# Altium schematic symbol library CRCW040223R7FKED.SchLib: 1 symbol
Pins are listed as number, name and electrical type; pins without a type are passive.

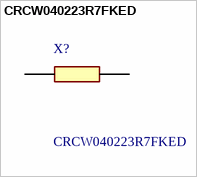
[diagram p0: symbol CRCW040223R7FKED]

## CRCW040223R7FKED
designator X?
RESISTOR, 0402 23.7 Ohms +/-1% 0.063 W; Manufacturer_Name: Vishay; Geometry.Height: 0.4mm; Manufacturer_Part_Number: CRCW040223R7FKED; Mouser Part Number: *; Mouser Price/Stock: *; Arrow Part Number: *; Arrow Price/Stock: *; Datasheet Link: http://www.vishay.com/docs/20035/dcrcwe3.pdf
footprint RESC1005X40N
pins: 1, 2